# Altium schematic symbol library 1206 2.7K.Schlib: 1 symbol
Pins are listed as number, name and electrical type; pins without a type are passive.

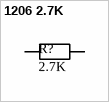
[diagram p0: symbol 1206 2.7K]

## 1206 2.7K
designator R?, comment value 2.7K  (hidden comment: Resistor)
2.7kΩ ±1% 0.25W ±100ppm/℃ 1206 Chip Resistor - Surface Mount RoHS; LCSC Part #: C17950; ComponentLink1Description: LCSC - UNI-ROYAL(Uniroyal Elec) 1206W4F2701T5E; ComponentLink1URL: https://lcsc.com/product-detail/Chip-Resistor-Surface-Mount_Uniroyal-Elec-1206W4F2701T5E_C17950.html/?href=jlc-SMT; JLCPCB Part Type: Extended
footprint RES 1206_3216 (Chip Resistor, 2-Leads, Body 3.13x1.55mm, IPC Medium Density)
pins: 1, 2